# Altium schematic symbol library ECS-400-10-37B2-CKY-TR.SchLib: 1 symbol
Pins are listed as number, name and electrical type; pins without a type are passive.

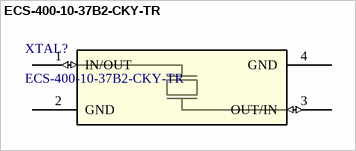
[diagram p0: symbol ECS-400-10-37B2-CKY-TR]

## ECS-400-10-37B2-CKY-TR
designator XTAL?
Description; Manufacturer_Name: ECS International; Copyright: Copyright (C) 2025 Ultra Librarian. All rights reserved.; Manufacturer_Part_Number: ECS-400-10-37B2-CKY-TR; RefDes: RefDes; Type: Type
footprint ECX-1637B2_ECS
pins: 1 IN/OUT (io), 2 GND (power), 3 OUT/IN (io), 4 GND (power)